# Altium footprint library Button_Switch_SMD.PcbLib: 148 footprints (part 5 of 10)
Each footprint in its own frame and in the unit in brackets; x right, y up, seen from the top. Pads: shape width x height; smd on the part's side, far side on the other; paste and mask are expansions set on the pad; w line width, h text height; cw(c..) or ccw(c..) is an arc to the next point about the centre after c.
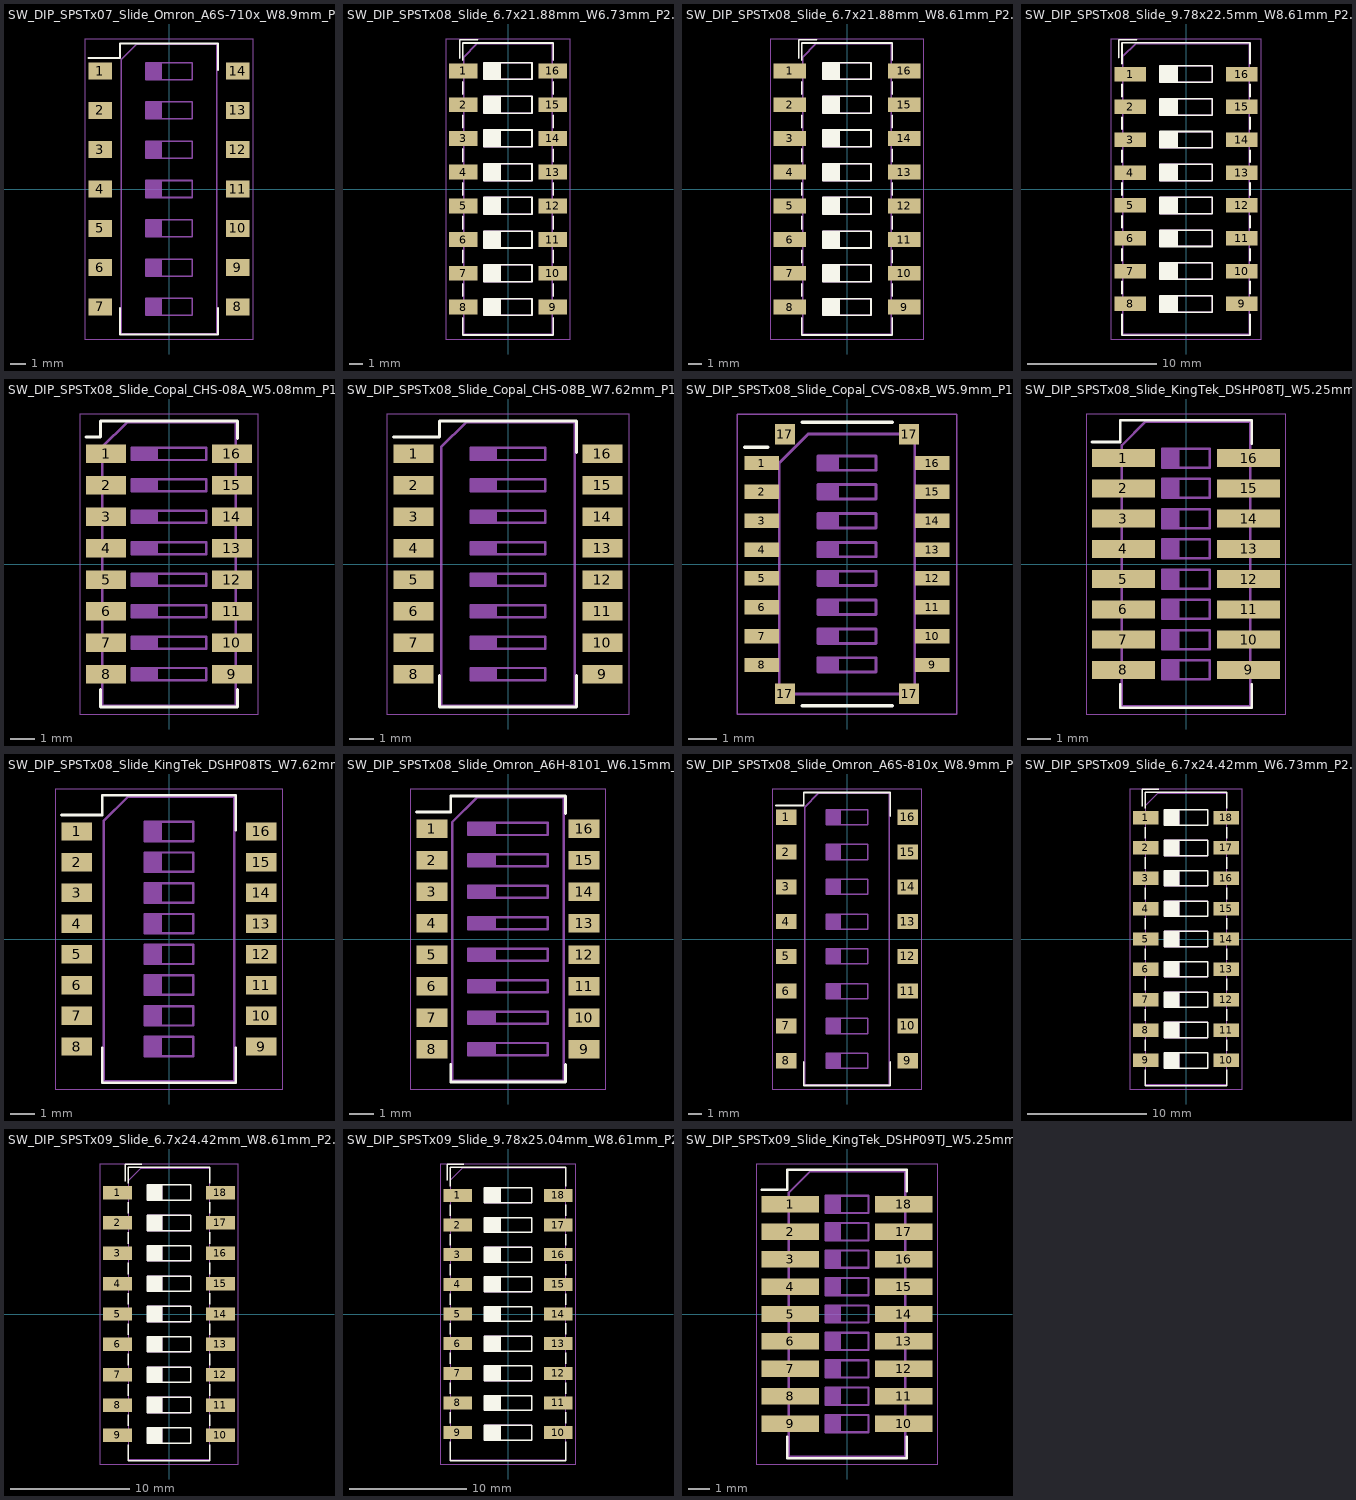
[diagram p4: the footprints below, top view; thin cyan lines are the x and y axes]

## SW_DIP_SPSTx07_Slide_Omron_A6S-710x_W8.9mm_P2.54mm [mm]
pads (14):
  rect 1.5x1.1 smd: 1(-4.45,7.62) 2(-4.45,5.08) 3(-4.45,2.54) 4(-4.45,0) 5(-4.45,-2.54) 6(-4.45,-5.08) 7(-4.45,-7.62) 8(4.45,-7.62) 9(4.45,-5.08) 10(4.45,-2.54) 11(4.45,0) 12(4.45,2.54) 13(4.45,5.08) 14(4.45,7.62)
F.SilkS:
  lines w0.12: -5.2,8.471 -3.16,8.471 -3.16,9.42 3.16,9.42 3.16,7.681 ; -3.16,-7.68 -3.16,-9.42 3.16,-9.42 3.16,-7.68
F.CrtYd:
  lines w0.05: -5.45,-9.7 5.45,-9.7 5.45,9.7 -5.45,9.7 -5.45,-9.7
F.Fab:
  lines w0.1: -1.5,-8.07 -0.5,-8.07 ; -1.5,-7.97 -0.5,-7.97 ; -1.5,-7.87 -0.5,-7.87 ; -1.5,-7.77 -0.5,-7.77 ; -1.5,-7.67 -0.5,-7.67 ; -1.5,-7.57 -0.5,-7.57 ; -1.5,-7.47 -0.5,-7.47 ; -1.5,-7.37 -0.5,-7.37 ; -1.5,-7.27 -0.5,-7.27 ; -1.5,-7.17 -0.5,-7.17 ; -1.5,-5.53 -0.5,-5.53 ; -1.5,-5.43 -0.5,-5.43 ; -1.5,-5.33 -0.5,-5.33 ; -1.5,-5.23 -0.5,-5.23 ; -1.5,-5.13 -0.5,-5.13 ; -1.5,-5.03 -0.5,-5.03 ; -1.5,-4.93 -0.5,-4.93 ; -1.5,-4.83 -0.5,-4.83 ; -1.5,-4.73 -0.5,-4.73 ; -1.5,-4.63 -0.5,-4.63 ; -1.5,-2.99 -0.5,-2.99 ; -1.5,-2.89 -0.5,-2.89 ; -1.5,-2.79 -0.5,-2.79 ; -1.5,-2.69 -0.5,-2.69 ; -1.5,-2.59 -0.5,-2.59 ; -1.5,-2.49 -0.5,-2.49 ; -1.5,-2.39 -0.5,-2.39 ; -1.5,-2.29 -0.5,-2.29 ; -1.5,-2.19 -0.5,-2.19 ; -1.5,-2.09 -0.5,-2.09 ; -1.5,-0.45 -0.5,-0.45 ; -1.5,-0.35 -0.5,-0.35 ; -1.5,-0.25 -0.5,-0.25 ; -1.5,-0.15 -0.5,-0.15 ; -1.5,-0.05 -0.5,-0.05 ; -1.5,0.05 -0.5,0.05 ; -1.5,0.15 -0.5,0.15 ; -1.5,0.25 -0.5,0.25 ; -1.5,0.35 -0.5,0.35 ; -1.5,0.45 -0.5,0.45 ; -1.5,2.09 -0.5,2.09 ; -1.5,2.19 -0.5,2.19 ; -1.5,2.29 -0.5,2.29 ; -1.5,2.39 -0.5,2.39 ; -1.5,2.49 -0.5,2.49 ; -1.5,2.59 -0.5,2.59 ; -1.5,2.69 -0.5,2.69 ; -1.5,2.79 -0.5,2.79 ; -1.5,2.89 -0.5,2.89 ; -1.5,2.99 -0.5,2.99 ; -1.5,4.63 -0.5,4.63 ; -1.5,4.73 -0.5,4.73 ; -1.5,4.83 -0.5,4.83 ; -1.5,4.93 -0.5,4.93 ; -1.5,5.03 -0.5,5.03 ; -1.5,5.13 -0.5,5.13 ; -1.5,5.23 -0.5,5.23 ; -1.5,5.33 -0.5,5.33 ; -1.5,5.43 -0.5,5.43 ; -1.5,5.53 -0.5,5.53 ; -1.5,7.17 -0.5,7.17 ; -1.5,7.27 -0.5,7.27 ; -1.5,7.37 -0.5,7.37 ; -1.5,7.47 -0.5,7.47 ; -1.5,7.57 -0.5,7.57 ; -1.5,7.67 -0.5,7.67 ; -1.5,7.77 -0.5,7.77 ; -1.5,7.87 -0.5,7.87 ; -1.5,7.97 -0.5,7.97 ; -1.5,8.07 -0.5,8.07 ; -0.5,-7.07 -0.5,-8.17 -1.5,-8.17 ; -0.5,-4.53 -0.5,-5.63 -1.5,-5.63 ; -0.5,-1.99 -0.5,-3.09 -1.5,-3.09 ; -0.5,0.55 -0.5,-0.55 -1.5,-0.55 ; -0.5,3.09 -0.5,1.99 -1.5,1.99 ; -0.5,4.53 -0.5,5.63 ; -0.5,8.17 -0.5,7.07 -1.5,7.07 ; -1.5,-8.17 1.5,-8.17 1.5,-7.07 -1.5,-7.07 -1.5,-8.17 ; -1.5,-5.63 1.5,-5.63 1.5,-4.53 -1.5,-4.53 -1.5,-5.63 ; -1.5,-3.09 1.5,-3.09 1.5,-1.99 -1.5,-1.99 -1.5,-3.09 ; -1.5,-0.55 -1.5,0.55 1.5,0.55 1.5,-0.55 -1.5,-0.55 ; -1.5,1.99 1.5,1.99 1.5,3.09 -1.5,3.09 -1.5,1.99 ; -1.5,7.07 1.5,7.07 1.5,8.17 -1.5,8.17 -1.5,7.07 ; -3.1,-9.36 3.1,-9.36 3.1,9.36 -2.1,9.36 -3.1,8.36 -3.1,-9.36 ; -1.5,4.53 -1.5,5.63 1.5,5.63 1.5,4.53 -1.5,4.53
  text "'.Designator'" at 2.972,-3.237 h0.8
  text "on" at -0.59,8.378 h0.8

## SW_DIP_SPSTx08_Slide_6.7x21.88mm_W6.73mm_P2.54mm_LowProfile_JPin [mm]
pads (16):
  rect 2.16x1.12 smd: 1(-3.365,8.89) 2(-3.365,6.35) 3(-3.365,3.81) 4(-3.365,1.27) 5(-3.365,-1.27) 6(-3.365,-3.81) 7(-3.365,-6.35) 8(-3.365,-8.89) 9(3.365,-8.89) 10(3.365,-6.35) 11(3.365,-3.81) 12(3.365,-1.27) 13(3.365,1.27) 14(3.365,3.81) 15(3.365,6.35) 16(3.365,8.89)
F.SilkS:
  lines w0.12: -3.65,9.857 -3.65,11.24 -2.267,11.24 ; -3.41,-9.69 -3.41,-11.001 3.41,-11.001 3.41,-9.69 ; -3.41,-8.09 -3.41,-7.15 ; -3.41,-5.55 -3.41,-4.61 ; -3.41,-3.01 -3.41,-2.07 ; -3.41,-0.47 -3.41,0.47 ; -3.41,2.07 -3.41,3.01 ; -3.41,4.61 -3.41,5.55 ; -3.41,7.15 -3.41,8.09 ; -3.41,9.69 -3.41,11 3.41,11 3.41,9.69 ; -1.81,-9.455 -0.603,-9.455 ; -1.81,-9.335 -0.603,-9.335 ; -1.81,-9.215 -0.603,-9.215 ; -1.81,-9.095 -0.603,-9.095 ; -1.81,-8.975 -0.603,-8.975 ; -1.81,-8.855 -0.603,-8.855 ; -1.81,-8.735 -0.603,-8.735 ; -1.81,-8.615 -0.603,-8.615 ; -1.81,-8.495 -0.603,-8.495 ; -1.81,-8.375 -0.603,-8.375 ; -1.81,-6.915 -0.603,-6.915 ; -1.81,-6.795 -0.603,-6.795 ; -1.81,-6.675 -0.603,-6.675 ; -1.81,-6.555 -0.603,-6.555 ; -1.81,-6.435 -0.603,-6.435 ; -1.81,-6.315 -0.603,-6.315 ; -1.81,-6.195 -0.603,-6.195 ; -1.81,-6.075 -0.603,-6.075 ; -1.81,-5.955 -0.603,-5.955 ; -1.81,-5.835 -0.603,-5.835 ; -1.81,-4.375 -0.603,-4.375 ; -1.81,-4.255 -0.603,-4.255 ; -1.81,-4.135 -0.603,-4.135 ; -1.81,-4.015 -0.603,-4.015 ; -1.81,-3.895 -0.603,-3.895 ; -1.81,-3.775 -0.603,-3.775 ; -1.81,-3.655 -0.603,-3.655 ; -1.81,-3.535 -0.603,-3.535 ; -1.81,-3.415 -0.603,-3.415 ; -1.81,-3.295 -0.603,-3.295 ; -1.81,-1.835 -0.603,-1.835 ; -1.81,-1.715 -0.603,-1.715 ; -1.81,-1.595 -0.603,-1.595 ; -1.81,-1.475 -0.603,-1.475 ; -1.81,-1.355 -0.603,-1.355 ; -1.81,-1.235 -0.603,-1.235 ; -1.81,-1.115 -0.603,-1.115 ; -1.81,-0.995 -0.603,-0.995 ; -1.81,-0.875 -0.603,-0.875 ; -1.81,-0.755 -0.603,-0.755 ; -1.81,0.705 -0.603,0.705 ; -1.81,0.825 -0.603,0.825 ; -1.81,0.945 -0.603,0.945 ; -1.81,1.065 -0.603,1.065 ; -1.81,1.185 -0.603,1.185 ; -1.81,1.305 -0.603,1.305 ; -1.81,1.425 -0.603,1.425 ; -1.81,1.545 -0.603,1.545 ; -1.81,1.665 -0.603,1.665 ; -1.81,1.785 -0.603,1.785 ; -1.81,3.245 -0.603,3.245 ; -1.81,3.365 -0.603,3.365 ; -1.81,3.485 -0.603,3.485 ; -1.81,3.605 -0.603,3.605 ; -1.81,3.725 -0.603,3.725 ; -1.81,3.845 -0.603,3.845 ; -1.81,3.965 -0.603,3.965 ; -1.81,4.085 -0.603,4.085 ; -1.81,4.205 -0.603,4.205 ; -1.81,4.325 -0.603,4.325 ; -1.81,5.785 -0.603,5.785 ; -1.81,5.905 -0.603,5.905 ; -1.81,6.025 -0.603,6.025 ; -1.81,6.145 -0.603,6.145 ; -1.81,6.265 -0.603,6.265 ; -1.81,6.385 -0.603,6.385 ; -1.81,6.505 -0.603,6.505 ; -1.81,6.625 -0.603,6.625 ; -1.81,6.745 -0.603,6.745 ; -1.81,6.865 -0.603,6.865 ; -1.81,8.325 -0.603,8.325 ; -1.81,8.445 -0.603,8.445 ; -1.81,8.565 -0.603,8.565 ; -1.81,8.685 -0.603,8.685 ; -1.81,8.805 -0.603,8.805 ; -1.81,8.925 -0.603,8.925 ; -1.81,9.045 -0.603,9.045 ; -1.81,9.165 -0.603,9.165 ; -1.81,9.285 -0.603,9.285 ; -1.81,9.405 -0.603,9.405 ; -0.603,-9.525 -0.603,-8.255 ; -0.603,-6.985 -0.603,-5.715 ; -0.603,-4.445 -0.603,-3.175 ; -0.603,-1.905 -0.603,-0.635 ; -0.603,0.635 -0.603,1.905 ; -0.603,3.175 -0.603,4.445 ; -0.603,5.715 -0.603,6.985 ; -0.603,8.255 -0.603,9.525 ; 3.41,-8.09 3.41,-7.151 ; 3.41,-5.551 3.41,-4.611 ; 3.41,-3.011 3.41,-2.071 ; 3.41,-0.471 3.41,0.469 ; 3.41,2.069 3.41,3.009 ; 3.41,4.609 3.41,5.549 ; 3.41,7.149 3.41,8.089 ; -1.81,-9.525 1.81,-9.525 1.81,-8.255 -1.81,-8.255 -1.81,-9.525 ; -1.81,-6.985 1.81,-6.985 1.81,-5.715 -1.81,-5.715 -1.81,-6.985 ; -1.81,-4.445 -1.81,-3.175 1.81,-3.175 1.81,-4.445 -1.81,-4.445 ; -1.81,-1.905 -1.81,-0.635 1.81,-0.635 1.81,-1.905 -1.81,-1.905 ; -1.81,0.635 1.81,0.635 1.81,1.905 -1.81,1.905 -1.81,0.635 ; -1.81,3.175 -1.81,4.445 1.81,4.445 1.81,3.175 -1.81,3.175 ; -1.81,5.715 1.81,5.715 1.81,6.985 -1.81,6.985 -1.81,5.715 ; -1.81,8.255 1.81,8.255 1.81,9.525 -1.81,9.525 -1.81,8.255
F.CrtYd:
  lines w0.05: -4.7,-11.3 4.7,-11.3 4.7,11.3 -4.7,11.3 -4.7,-11.3
F.Fab:
  lines w0.1: -1.81,-9.455 -0.603,-9.455 ; -1.81,-9.355 -0.603,-9.355 ; -1.81,-9.255 -0.603,-9.255 ; -1.81,-9.155 -0.603,-9.155 ; -1.81,-9.055 -0.603,-9.055 ; -1.81,-8.955 -0.603,-8.955 ; -1.81,-8.855 -0.603,-8.855 ; -1.81,-8.755 -0.603,-8.755 ; -1.81,-8.655 -0.603,-8.655 ; -1.81,-8.555 -0.603,-8.555 ; -1.81,-8.455 -0.603,-8.455 ; -1.81,-8.355 -0.603,-8.355 ; -1.81,-6.915 -0.603,-6.915 ; -1.81,-6.815 -0.603,-6.815 ; -1.81,-6.715 -0.603,-6.715 ; -1.81,-6.615 -0.603,-6.615 ; -1.81,-6.515 -0.603,-6.515 ; -1.81,-6.415 -0.603,-6.415 ; -1.81,-6.315 -0.603,-6.315 ; -1.81,-6.215 -0.603,-6.215 ; -1.81,-6.115 -0.603,-6.115 ; -1.81,-6.015 -0.603,-6.015 ; -1.81,-5.915 -0.603,-5.915 ; -1.81,-5.815 -0.603,-5.815 ; -1.81,-4.375 -0.603,-4.375 ; -1.81,-4.275 -0.603,-4.275 ; -1.81,-4.175 -0.603,-4.175 ; -1.81,-4.075 -0.603,-4.075 ; -1.81,-3.975 -0.603,-3.975 ; -1.81,-3.875 -0.603,-3.875 ; -1.81,-3.775 -0.603,-3.775 ; -1.81,-3.675 -0.603,-3.675 ; -1.81,-3.575 -0.603,-3.575 ; -1.81,-3.475 -0.603,-3.475 ; -1.81,-3.375 -0.603,-3.375 ; -1.81,-3.275 -0.603,-3.275 ; -1.81,-1.835 -0.603,-1.835 ; -1.81,-1.735 -0.603,-1.735 ; -1.81,-1.635 -0.603,-1.635 ; -1.81,-1.535 -0.603,-1.535 ; -1.81,-1.435 -0.603,-1.435 ; -1.81,-1.335 -0.603,-1.335 ; -1.81,-1.235 -0.603,-1.235 ; -1.81,-1.135 -0.603,-1.135 ; -1.81,-1.035 -0.603,-1.035 ; -1.81,-0.935 -0.603,-0.935 ; -1.81,-0.835 -0.603,-0.835 ; -1.81,-0.735 -0.603,-0.735 ; -1.81,0.705 -0.603,0.705 ; -1.81,0.805 -0.603,0.805 ; -1.81,0.905 -0.603,0.905 ; -1.81,1.005 -0.603,1.005 ; -1.81,1.105 -0.603,1.105 ; -1.81,1.205 -0.603,1.205 ; -1.81,1.305 -0.603,1.305 ; -1.81,1.405 -0.603,1.405 ; -1.81,1.505 -0.603,1.505 ; -1.81,1.605 -0.603,1.605 ; -1.81,1.705 -0.603,1.705 ; -1.81,1.805 -0.603,1.805 ; -1.81,3.245 -0.603,3.245 ; -1.81,3.345 -0.603,3.345 ; -1.81,3.445 -0.603,3.445 ; -1.81,3.545 -0.603,3.545 ; -1.81,3.645 -0.603,3.645 ; -1.81,3.745 -0.603,3.745 ; -1.81,3.845 -0.603,3.845 ; -1.81,3.945 -0.603,3.945 ; -1.81,4.045 -0.603,4.045 ; -1.81,4.145 -0.603,4.145 ; -1.81,4.245 -0.603,4.245 ; -1.81,4.345 -0.603,4.345 ; -1.81,5.785 -0.603,5.785 ; -1.81,5.885 -0.603,5.885 ; -1.81,5.985 -0.603,5.985 ; -1.81,6.085 -0.603,6.085 ; -1.81,6.185 -0.603,6.185 ; -1.81,6.285 -0.603,6.285 ; -1.81,6.385 -0.603,6.385 ; -1.81,6.485 -0.603,6.485 ; -1.81,6.585 -0.603,6.585 ; -1.81,6.685 -0.603,6.685 ; -1.81,6.785 -0.603,6.785 ; -1.81,6.885 -0.603,6.885 ; -1.81,8.325 -0.603,8.325 ; -1.81,8.425 -0.603,8.425 ; -1.81,8.525 -0.603,8.525 ; -1.81,8.625 -0.603,8.625 ; -1.81,8.725 -0.603,8.725 ; -1.81,8.825 -0.603,8.825 ; -1.81,8.925 -0.603,8.925 ; -1.81,9.025 -0.603,9.025 ; -1.81,9.125 -0.603,9.125 ; -1.81,9.225 -0.603,9.225 ; -1.81,9.325 -0.603,9.325 ; -1.81,9.425 -0.603,9.425 ; -0.603,-9.525 -0.603,-8.255 ; -0.603,-6.985 -0.603,-5.715 ; -0.603,-4.445 -0.603,-3.175 ; -0.603,-1.905 -0.603,-0.635 ; -0.603,0.635 -0.603,1.905 ; -0.603,3.175 -0.603,4.445 ; -0.603,5.715 -0.603,6.985 ; -0.603,8.255 -0.603,9.525 ; -3.35,-10.94 3.35,-10.94 3.35,10.94 -2.35,10.94 -3.35,9.94 -3.35,-10.94 ; -1.81,-9.525 1.81,-9.525 1.81,-8.255 -1.81,-8.255 -1.81,-9.525 ; -1.81,-6.985 1.81,-6.985 1.81,-5.715 -1.81,-5.715 -1.81,-6.985 ; -1.81,-4.445 -1.81,-3.175 1.81,-3.175 1.81,-4.445 -1.81,-4.445 ; -1.81,-1.905 -1.81,-0.635 1.81,-0.635 1.81,-1.905 -1.81,-1.905 ; -1.81,0.635 1.81,0.635 1.81,1.905 -1.81,1.905 -1.81,0.635 ; -1.81,3.175 -1.81,4.445 1.81,4.445 1.81,3.175 -1.81,3.175 ; -1.81,5.715 1.81,5.715 1.81,6.985 -1.81,6.985 -1.81,5.715 ; -1.81,8.255 1.81,8.255 1.81,9.525 -1.81,9.525 -1.81,8.255
  text "on" at 0.233,9.846 h0.8
  text "'.Designator'" at 3.252,-3.237 h0.8

## SW_DIP_SPSTx08_Slide_6.7x21.88mm_W8.61mm_P2.54mm_LowProfile [mm]
pads (16):
  rect 2.44x1.12 smd: 1(-4.305,8.89) 2(-4.305,6.35) 3(-4.305,3.81) 4(-4.305,1.27) 5(-4.305,-1.27) 6(-4.305,-3.81) 7(-4.305,-6.35) 8(-4.305,-8.89) 9(4.305,-8.89) 10(4.305,-6.35) 11(4.305,-3.81) 12(4.305,-1.27) 13(4.305,1.27) 14(4.305,3.81) 15(4.305,6.35) 16(4.305,8.89)
F.SilkS:
  lines w0.12: -3.65,9.857 -3.65,11.24 -2.267,11.24 ; -3.41,-9.69 -3.41,-11.001 3.41,-11.001 3.41,-9.69 ; -3.41,-8.09 -3.41,-7.15 ; -3.41,-5.55 -3.41,-4.61 ; -3.41,-3.01 -3.41,-2.07 ; -3.41,-0.47 -3.41,0.47 ; -3.41,2.07 -3.41,3.01 ; -3.41,4.61 -3.41,5.55 ; -3.41,7.15 -3.41,8.09 ; -3.41,9.69 -3.41,11 3.41,11 3.41,9.69 ; -1.81,-9.455 -0.603,-9.455 ; -1.81,-9.335 -0.603,-9.335 ; -1.81,-9.215 -0.603,-9.215 ; -1.81,-9.095 -0.603,-9.095 ; -1.81,-8.975 -0.603,-8.975 ; -1.81,-8.855 -0.603,-8.855 ; -1.81,-8.735 -0.603,-8.735 ; -1.81,-8.615 -0.603,-8.615 ; -1.81,-8.495 -0.603,-8.495 ; -1.81,-8.375 -0.603,-8.375 ; -1.81,-6.915 -0.603,-6.915 ; -1.81,-6.795 -0.603,-6.795 ; -1.81,-6.675 -0.603,-6.675 ; -1.81,-6.555 -0.603,-6.555 ; -1.81,-6.435 -0.603,-6.435 ; -1.81,-6.315 -0.603,-6.315 ; -1.81,-6.195 -0.603,-6.195 ; -1.81,-6.075 -0.603,-6.075 ; -1.81,-5.955 -0.603,-5.955 ; -1.81,-5.835 -0.603,-5.835 ; -1.81,-4.375 -0.603,-4.375 ; -1.81,-4.255 -0.603,-4.255 ; -1.81,-4.135 -0.603,-4.135 ; -1.81,-4.015 -0.603,-4.015 ; -1.81,-3.895 -0.603,-3.895 ; -1.81,-3.775 -0.603,-3.775 ; -1.81,-3.655 -0.603,-3.655 ; -1.81,-3.535 -0.603,-3.535 ; -1.81,-3.415 -0.603,-3.415 ; -1.81,-3.295 -0.603,-3.295 ; -1.81,-1.835 -0.603,-1.835 ; -1.81,-1.715 -0.603,-1.715 ; -1.81,-1.595 -0.603,-1.595 ; -1.81,-1.475 -0.603,-1.475 ; -1.81,-1.355 -0.603,-1.355 ; -1.81,-1.235 -0.603,-1.235 ; -1.81,-1.115 -0.603,-1.115 ; -1.81,-0.995 -0.603,-0.995 ; -1.81,-0.875 -0.603,-0.875 ; -1.81,-0.755 -0.603,-0.755 ; -1.81,0.705 -0.603,0.705 ; -1.81,0.825 -0.603,0.825 ; -1.81,0.945 -0.603,0.945 ; -1.81,1.065 -0.603,1.065 ; -1.81,1.185 -0.603,1.185 ; -1.81,1.305 -0.603,1.305 ; -1.81,1.425 -0.603,1.425 ; -1.81,1.545 -0.603,1.545 ; -1.81,1.665 -0.603,1.665 ; -1.81,1.785 -0.603,1.785 ; -1.81,3.245 -0.603,3.245 ; -1.81,3.365 -0.603,3.365 ; -1.81,3.485 -0.603,3.485 ; -1.81,3.605 -0.603,3.605 ; -1.81,3.725 -0.603,3.725 ; -1.81,3.845 -0.603,3.845 ; -1.81,3.965 -0.603,3.965 ; -1.81,4.085 -0.603,4.085 ; -1.81,4.205 -0.603,4.205 ; -1.81,4.325 -0.603,4.325 ; -1.81,5.785 -0.603,5.785 ; -1.81,5.905 -0.603,5.905 ; -1.81,6.025 -0.603,6.025 ; -1.81,6.145 -0.603,6.145 ; -1.81,6.265 -0.603,6.265 ; -1.81,6.385 -0.603,6.385 ; -1.81,6.505 -0.603,6.505 ; -1.81,6.625 -0.603,6.625 ; -1.81,6.745 -0.603,6.745 ; -1.81,6.865 -0.603,6.865 ; -1.81,8.325 -0.603,8.325 ; -1.81,8.445 -0.603,8.445 ; -1.81,8.565 -0.603,8.565 ; -1.81,8.685 -0.603,8.685 ; -1.81,8.805 -0.603,8.805 ; -1.81,8.925 -0.603,8.925 ; -1.81,9.045 -0.603,9.045 ; -1.81,9.165 -0.603,9.165 ; -1.81,9.285 -0.603,9.285 ; -1.81,9.405 -0.603,9.405 ; -0.603,-9.525 -0.603,-8.255 ; -0.603,-6.985 -0.603,-5.715 ; -0.603,-4.445 -0.603,-3.175 ; -0.603,-1.905 -0.603,-0.635 ; -0.603,0.635 -0.603,1.905 ; -0.603,3.175 -0.603,4.445 ; -0.603,5.715 -0.603,6.985 ; -0.603,8.255 -0.603,9.525 ; 3.41,-8.09 3.41,-7.151 ; 3.41,-5.551 3.41,-4.611 ; 3.41,-3.011 3.41,-2.071 ; 3.41,-0.471 3.41,0.469 ; 3.41,2.069 3.41,3.009 ; 3.41,4.609 3.41,5.549 ; 3.41,7.149 3.41,8.089 ; -1.81,-9.525 1.81,-9.525 1.81,-8.255 -1.81,-8.255 -1.81,-9.525 ; -1.81,-6.985 1.81,-6.985 1.81,-5.715 -1.81,-5.715 -1.81,-6.985 ; -1.81,-4.445 -1.81,-3.175 1.81,-3.175 1.81,-4.445 -1.81,-4.445 ; -1.81,-1.905 1.81,-1.905 1.81,-0.635 -1.81,-0.635 -1.81,-1.905 ; -1.81,0.635 1.81,0.635 1.81,1.905 -1.81,1.905 -1.81,0.635 ; -1.81,3.175 -1.81,4.445 1.81,4.445 1.81,3.175 -1.81,3.175 ; -1.81,5.715 -1.81,6.985 1.81,6.985 1.81,5.715 -1.81,5.715 ; -1.81,8.255 -1.81,9.525 1.81,9.525 1.81,8.255 -1.81,8.255
F.CrtYd:
  lines w0.05: -5.8,-11.3 -5.8,11.3 5.8,11.3 5.8,-11.3 -5.8,-11.3
F.Fab:
  lines w0.1: -1.81,-9.455 -0.603,-9.455 ; -1.81,-9.355 -0.603,-9.355 ; -1.81,-9.255 -0.603,-9.255 ; -1.81,-9.155 -0.603,-9.155 ; -1.81,-9.055 -0.603,-9.055 ; -1.81,-8.955 -0.603,-8.955 ; -1.81,-8.855 -0.603,-8.855 ; -1.81,-8.755 -0.603,-8.755 ; -1.81,-8.655 -0.603,-8.655 ; -1.81,-8.555 -0.603,-8.555 ; -1.81,-8.455 -0.603,-8.455 ; -1.81,-8.355 -0.603,-8.355 ; -1.81,-6.915 -0.603,-6.915 ; -1.81,-6.815 -0.603,-6.815 ; -1.81,-6.715 -0.603,-6.715 ; -1.81,-6.615 -0.603,-6.615 ; -1.81,-6.515 -0.603,-6.515 ; -1.81,-6.415 -0.603,-6.415 ; -1.81,-6.315 -0.603,-6.315 ; -1.81,-6.215 -0.603,-6.215 ; -1.81,-6.115 -0.603,-6.115 ; -1.81,-6.015 -0.603,-6.015 ; -1.81,-5.915 -0.603,-5.915 ; -1.81,-5.815 -0.603,-5.815 ; -1.81,-4.375 -0.603,-4.375 ; -1.81,-4.275 -0.603,-4.275 ; -1.81,-4.175 -0.603,-4.175 ; -1.81,-4.075 -0.603,-4.075 ; -1.81,-3.975 -0.603,-3.975 ; -1.81,-3.875 -0.603,-3.875 ; -1.81,-3.775 -0.603,-3.775 ; -1.81,-3.675 -0.603,-3.675 ; -1.81,-3.575 -0.603,-3.575 ; -1.81,-3.475 -0.603,-3.475 ; -1.81,-3.375 -0.603,-3.375 ; -1.81,-3.275 -0.603,-3.275 ; -1.81,-1.835 -0.603,-1.835 ; -1.81,-1.735 -0.603,-1.735 ; -1.81,-1.635 -0.603,-1.635 ; -1.81,-1.535 -0.603,-1.535 ; -1.81,-1.435 -0.603,-1.435 ; -1.81,-1.335 -0.603,-1.335 ; -1.81,-1.235 -0.603,-1.235 ; -1.81,-1.135 -0.603,-1.135 ; -1.81,-1.035 -0.603,-1.035 ; -1.81,-0.935 -0.603,-0.935 ; -1.81,-0.835 -0.603,-0.835 ; -1.81,-0.735 -0.603,-0.735 ; -1.81,0.705 -0.603,0.705 ; -1.81,0.805 -0.603,0.805 ; -1.81,0.905 -0.603,0.905 ; -1.81,1.005 -0.603,1.005 ; -1.81,1.105 -0.603,1.105 ; -1.81,1.205 -0.603,1.205 ; -1.81,1.305 -0.603,1.305 ; -1.81,1.405 -0.603,1.405 ; -1.81,1.505 -0.603,1.505 ; -1.81,1.605 -0.603,1.605 ; -1.81,1.705 -0.603,1.705 ; -1.81,1.805 -0.603,1.805 ; -1.81,3.245 -0.603,3.245 ; -1.81,3.345 -0.603,3.345 ; -1.81,3.445 -0.603,3.445 ; -1.81,3.545 -0.603,3.545 ; -1.81,3.645 -0.603,3.645 ; -1.81,3.745 -0.603,3.745 ; -1.81,3.845 -0.603,3.845 ; -1.81,3.945 -0.603,3.945 ; -1.81,4.045 -0.603,4.045 ; -1.81,4.145 -0.603,4.145 ; -1.81,4.245 -0.603,4.245 ; -1.81,4.345 -0.603,4.345 ; -1.81,5.785 -0.603,5.785 ; -1.81,5.885 -0.603,5.885 ; -1.81,5.985 -0.603,5.985 ; -1.81,6.085 -0.603,6.085 ; -1.81,6.185 -0.603,6.185 ; -1.81,6.285 -0.603,6.285 ; -1.81,6.385 -0.603,6.385 ; -1.81,6.485 -0.603,6.485 ; -1.81,6.585 -0.603,6.585 ; -1.81,6.685 -0.603,6.685 ; -1.81,6.785 -0.603,6.785 ; -1.81,6.885 -0.603,6.885 ; -1.81,8.325 -0.603,8.325 ; -1.81,8.425 -0.603,8.425 ; -1.81,8.525 -0.603,8.525 ; -1.81,8.625 -0.603,8.625 ; -1.81,8.725 -0.603,8.725 ; -1.81,8.825 -0.603,8.825 ; -1.81,8.925 -0.603,8.925 ; -1.81,9.025 -0.603,9.025 ; -1.81,9.125 -0.603,9.125 ; -1.81,9.225 -0.603,9.225 ; -1.81,9.325 -0.603,9.325 ; -1.81,9.425 -0.603,9.425 ; -0.603,-9.525 -0.603,-8.255 ; -0.603,-6.985 -0.603,-5.715 ; -0.603,-4.445 -0.603,-3.175 ; -0.603,-1.905 -0.603,-0.635 ; -0.603,0.635 -0.603,1.905 ; -0.603,3.175 -0.603,4.445 ; -0.603,5.715 -0.603,6.985 ; -0.603,8.255 -0.603,9.525 ; -3.35,-10.94 -3.35,9.94 -2.35,10.94 3.35,10.94 3.35,-10.94 -3.35,-10.94 ; -1.81,-9.525 -1.81,-8.255 1.81,-8.255 1.81,-9.525 -1.81,-9.525 ; -1.81,-6.985 -1.81,-5.715 1.81,-5.715 1.81,-6.985 -1.81,-6.985 ; -1.81,-4.445 1.81,-4.445 1.81,-3.175 -1.81,-3.175 -1.81,-4.445 ; -1.81,-1.905 -1.81,-0.635 1.81,-0.635 1.81,-1.905 -1.81,-1.905 ; -1.81,0.635 1.81,0.635 1.81,1.905 -1.81,1.905 -1.81,0.635 ; -1.81,3.175 1.81,3.175 1.81,4.445 -1.81,4.445 -1.81,3.175 ; -1.81,5.715 1.81,5.715 1.81,6.985 -1.81,6.985 -1.81,5.715 ; -1.81,8.255 1.81,8.255 1.81,9.525 -1.81,9.525 -1.81,8.255
  text "'.Designator'" at 3.252,-3.237 h0.8
  text "on" at -0.237,9.846 h0.8

## SW_DIP_SPSTx08_Slide_9.78x22.5mm_W8.61mm_P2.54mm [mm]
pads (16):
  rect 2.44x1.12 smd: 1(-4.305,8.89) 2(-4.305,6.35) 3(-4.305,3.81) 4(-4.305,1.27) 5(-4.305,-1.27) 6(-4.305,-3.81) 7(-4.305,-6.35) 8(-4.305,-8.89) 9(4.305,-8.89) 10(4.305,-6.35) 11(4.305,-3.81) 12(4.305,-1.27) 13(4.305,1.27) 14(4.305,3.81) 15(4.305,6.35) 16(4.305,8.89)
F.SilkS:
  lines w0.12: -5.19,10.167 -5.19,11.55 -3.806,11.55 ; -4.95,-9.69 -4.95,-11.311 4.95,-11.311 4.95,-9.69 ; -4.95,-8.09 -4.95,-7.15 ; -4.95,-5.55 -4.95,-4.61 ; -4.95,-3.01 -4.95,-2.07 ; -4.95,-0.47 -4.95,0.47 ; -4.95,2.07 -4.95,3.01 ; -4.95,4.61 -4.95,5.55 ; -4.95,7.15 -4.95,8.09 ; -4.95,9.69 -4.95,11.31 4.95,11.31 4.95,9.69 ; -2.03,-9.455 -0.677,-9.455 ; -2.03,-9.335 -0.677,-9.335 ; -2.03,-9.215 -0.677,-9.215 ; -2.03,-9.095 -0.677,-9.095 ; -2.03,-8.975 -0.677,-8.975 ; -2.03,-8.855 -0.677,-8.855 ; -2.03,-8.735 -0.677,-8.735 ; -2.03,-8.615 -0.677,-8.615 ; -2.03,-8.495 -0.677,-8.495 ; -2.03,-8.375 -0.677,-8.375 ; -2.03,-6.915 -0.677,-6.915 ; -2.03,-6.795 -0.677,-6.795 ; -2.03,-6.675 -0.677,-6.675 ; -2.03,-6.555 -0.677,-6.555 ; -2.03,-6.435 -0.677,-6.435 ; -2.03,-6.315 -0.677,-6.315 ; -2.03,-6.195 -0.677,-6.195 ; -2.03,-6.075 -0.677,-6.075 ; -2.03,-5.955 -0.677,-5.955 ; -2.03,-5.835 -0.677,-5.835 ; -2.03,-4.375 -0.677,-4.375 ; -2.03,-4.255 -0.677,-4.255 ; -2.03,-4.135 -0.677,-4.135 ; -2.03,-4.015 -0.677,-4.015 ; -2.03,-3.895 -0.677,-3.895 ; -2.03,-3.775 -0.677,-3.775 ; -2.03,-3.655 -0.677,-3.655 ; -2.03,-3.535 -0.677,-3.535 ; -2.03,-3.415 -0.677,-3.415 ; -2.03,-3.295 -0.677,-3.295 ; -2.03,-1.835 -0.677,-1.835 ; -2.03,-1.715 -0.677,-1.715 ; -2.03,-1.595 -0.677,-1.595 ; -2.03,-1.475 -0.677,-1.475 ; -2.03,-1.355 -0.677,-1.355 ; -2.03,-1.235 -0.677,-1.235 ; -2.03,-1.115 -0.677,-1.115 ; -2.03,-0.995 -0.677,-0.995 ; -2.03,-0.875 -0.677,-0.875 ; -2.03,-0.755 -0.677,-0.755 ; -2.03,0.705 -0.677,0.705 ; -2.03,0.825 -0.677,0.825 ; -2.03,0.945 -0.677,0.945 ; -2.03,1.065 -0.677,1.065 ; -2.03,1.185 -0.677,1.185 ; -2.03,1.305 -0.677,1.305 ; -2.03,1.425 -0.677,1.425 ; -2.03,1.545 -0.677,1.545 ; -2.03,1.665 -0.677,1.665 ; -2.03,1.785 -0.677,1.785 ; -2.03,3.245 -0.677,3.245 ; -2.03,3.365 -0.677,3.365 ; -2.03,3.485 -0.677,3.485 ; -2.03,3.605 -0.677,3.605 ; -2.03,3.725 -0.677,3.725 ; -2.03,3.845 -0.677,3.845 ; -2.03,3.965 -0.677,3.965 ; -2.03,4.085 -0.677,4.085 ; -2.03,4.205 -0.677,4.205 ; -2.03,4.325 -0.677,4.325 ; -2.03,5.785 -0.677,5.785 ; -2.03,5.905 -0.677,5.905 ; -2.03,6.025 -0.677,6.025 ; -2.03,6.145 -0.677,6.145 ; -2.03,6.265 -0.677,6.265 ; -2.03,6.385 -0.677,6.385 ; -2.03,6.505 -0.677,6.505 ; -2.03,6.625 -0.677,6.625 ; -2.03,6.745 -0.677,6.745 ; -2.03,6.865 -0.677,6.865 ; -2.03,8.325 -0.677,8.325 ; -2.03,8.445 -0.677,8.445 ; -2.03,8.565 -0.677,8.565 ; -2.03,8.685 -0.677,8.685 ; -2.03,8.805 -0.677,8.805 ; -2.03,8.925 -0.677,8.925 ; -2.03,9.045 -0.677,9.045 ; -2.03,9.165 -0.677,9.165 ; -2.03,9.285 -0.677,9.285 ; -2.03,9.405 -0.677,9.405 ; -0.677,-9.525 -0.677,-8.255 ; -0.677,-6.985 -0.677,-5.715 ; -0.677,-4.445 -0.677,-3.175 ; -0.677,-1.905 -0.677,-0.635 ; -0.677,0.635 -0.677,1.905 ; -0.677,3.175 -0.677,4.445 ; -0.677,5.715 -0.677,6.985 ; -0.677,8.255 -0.677,9.525 ; 4.95,-8.09 4.95,-7.151 ; 4.95,-5.551 4.95,-4.611 ; 4.95,-3.011 4.95,-2.071 ; 4.95,-0.471 4.95,0.469 ; 4.95,2.069 4.95,3.009 ; 4.95,4.609 4.95,5.549 ; 4.95,7.149 4.95,8.089 ; -2.03,-9.525 -2.03,-8.255 2.03,-8.255 2.03,-9.525 -2.03,-9.525 ; -2.03,-6.985 -2.03,-5.715 2.03,-5.715 2.03,-6.985 -2.03,-6.985 ; -2.03,-4.445 -2.03,-3.175 2.03,-3.175 2.03,-4.445 -2.03,-4.445 ; -2.03,-1.905 -2.03,-0.635 2.03,-0.635 2.03,-1.905 -2.03,-1.905 ; -2.03,0.635 2.03,0.635 2.03,1.905 -2.03,1.905 -2.03,0.635 ; -2.03,3.175 -2.03,4.445 2.03,4.445 2.03,3.175 -2.03,3.175 ; -2.03,5.715 2.03,5.715 2.03,6.985 -2.03,6.985 -2.03,5.715 ; -2.03,8.255 -2.03,9.525 2.03,9.525 2.03,8.255 -2.03,8.255
F.CrtYd:
  lines w0.05: -5.8,-11.6 -5.8,11.6 5.8,11.6 5.8,-11.6 -5.8,-11.6
F.Fab:
  lines w0.1: -2.03,-9.455 -0.677,-9.455 ; -2.03,-9.355 -0.677,-9.355 ; -2.03,-9.255 -0.677,-9.255 ; -2.03,-9.155 -0.677,-9.155 ; -2.03,-9.055 -0.677,-9.055 ; -2.03,-8.955 -0.677,-8.955 ; -2.03,-8.855 -0.677,-8.855 ; -2.03,-8.755 -0.677,-8.755 ; -2.03,-8.655 -0.677,-8.655 ; -2.03,-8.555 -0.677,-8.555 ; -2.03,-8.455 -0.677,-8.455 ; -2.03,-8.355 -0.677,-8.355 ; -2.03,-6.915 -0.677,-6.915 ; -2.03,-6.815 -0.677,-6.815 ; -2.03,-6.715 -0.677,-6.715 ; -2.03,-6.615 -0.677,-6.615 ; -2.03,-6.515 -0.677,-6.515 ; -2.03,-6.415 -0.677,-6.415 ; -2.03,-6.315 -0.677,-6.315 ; -2.03,-6.215 -0.677,-6.215 ; -2.03,-6.115 -0.677,-6.115 ; -2.03,-6.015 -0.677,-6.015 ; -2.03,-5.915 -0.677,-5.915 ; -2.03,-5.815 -0.677,-5.815 ; -2.03,-4.375 -0.677,-4.375 ; -2.03,-4.275 -0.677,-4.275 ; -2.03,-4.175 -0.677,-4.175 ; -2.03,-4.075 -0.677,-4.075 ; -2.03,-3.975 -0.677,-3.975 ; -2.03,-3.875 -0.677,-3.875 ; -2.03,-3.775 -0.677,-3.775 ; -2.03,-3.675 -0.677,-3.675 ; -2.03,-3.575 -0.677,-3.575 ; -2.03,-3.475 -0.677,-3.475 ; -2.03,-3.375 -0.677,-3.375 ; -2.03,-3.275 -0.677,-3.275 ; -2.03,-1.835 -0.677,-1.835 ; -2.03,-1.735 -0.677,-1.735 ; -2.03,-1.635 -0.677,-1.635 ; -2.03,-1.535 -0.677,-1.535 ; -2.03,-1.435 -0.677,-1.435 ; -2.03,-1.335 -0.677,-1.335 ; -2.03,-1.235 -0.677,-1.235 ; -2.03,-1.135 -0.677,-1.135 ; -2.03,-1.035 -0.677,-1.035 ; -2.03,-0.935 -0.677,-0.935 ; -2.03,-0.835 -0.677,-0.835 ; -2.03,-0.735 -0.677,-0.735 ; -2.03,0.705 -0.677,0.705 ; -2.03,0.805 -0.677,0.805 ; -2.03,0.905 -0.677,0.905 ; -2.03,1.005 -0.677,1.005 ; -2.03,1.105 -0.677,1.105 ; -2.03,1.205 -0.677,1.205 ; -2.03,1.305 -0.677,1.305 ; -2.03,1.405 -0.677,1.405 ; -2.03,1.505 -0.677,1.505 ; -2.03,1.605 -0.677,1.605 ; -2.03,1.705 -0.677,1.705 ; -2.03,1.805 -0.677,1.805 ; -2.03,3.245 -0.677,3.245 ; -2.03,3.345 -0.677,3.345 ; -2.03,3.445 -0.677,3.445 ; -2.03,3.545 -0.677,3.545 ; -2.03,3.645 -0.677,3.645 ; -2.03,3.745 -0.677,3.745 ; -2.03,3.845 -0.677,3.845 ; -2.03,3.945 -0.677,3.945 ; -2.03,4.045 -0.677,4.045 ; -2.03,4.145 -0.677,4.145 ; -2.03,4.245 -0.677,4.245 ; -2.03,4.345 -0.677,4.345 ; -2.03,5.785 -0.677,5.785 ; -2.03,5.885 -0.677,5.885 ; -2.03,5.985 -0.677,5.985 ; -2.03,6.085 -0.677,6.085 ; -2.03,6.185 -0.677,6.185 ; -2.03,6.285 -0.677,6.285 ; -2.03,6.385 -0.677,6.385 ; -2.03,6.485 -0.677,6.485 ; -2.03,6.585 -0.677,6.585 ; -2.03,6.685 -0.677,6.685 ; -2.03,6.785 -0.677,6.785 ; -2.03,6.885 -0.677,6.885 ; -2.03,8.325 -0.677,8.325 ; -2.03,8.425 -0.677,8.425 ; -2.03,8.525 -0.677,8.525 ; -2.03,8.625 -0.677,8.625 ; -2.03,8.725 -0.677,8.725 ; -2.03,8.825 -0.677,8.825 ; -2.03,8.925 -0.677,8.925 ; -2.03,9.025 -0.677,9.025 ; -2.03,9.125 -0.677,9.125 ; -2.03,9.225 -0.677,9.225 ; -2.03,9.325 -0.677,9.325 ; -2.03,9.425 -0.677,9.425 ; -0.677,-9.525 -0.677,-8.255 ; -0.677,-6.985 -0.677,-5.715 ; -0.677,-4.445 -0.677,-3.175 ; -0.677,-1.905 -0.677,-0.635 ; -0.677,0.635 -0.677,1.905 ; -0.677,3.175 -0.677,4.445 ; -0.677,5.715 -0.677,6.985 ; -0.677,8.255 -0.677,9.525 ; -4.89,-11.25 4.89,-11.25 4.89,11.25 -3.89,11.25 -4.89,10.25 -4.89,-11.25 ; -2.03,-9.525 2.03,-9.525 2.03,-8.255 -2.03,-8.255 -2.03,-9.525 ; -2.03,-6.985 -2.03,-5.715 2.03,-5.715 2.03,-6.985 -2.03,-6.985 ; -2.03,-4.445 2.03,-4.445 2.03,-3.175 -2.03,-3.175 -2.03,-4.445 ; -2.03,-1.905 2.03,-1.905 2.03,-0.635 -2.03,-0.635 -2.03,-1.905 ; -2.03,0.635 2.03,0.635 2.03,1.905 -2.03,1.905 -2.03,0.635 ; -2.03,3.175 2.03,3.175 2.03,4.445 -2.03,4.445 -2.03,3.175 ; -2.03,5.715 -2.03,6.985 2.03,6.985 2.03,5.715 -2.03,5.715 ; -2.03,8.255 2.03,8.255 2.03,9.525 -2.03,9.525 -2.03,8.255
  text "'.Designator'" at 4.132,-3.237 h0.8
  text "on" at 0.643,10.001 h0.8

## SW_DIP_SPSTx08_Slide_Copal_CHS-08A_W5.08mm_P1.27mm_JPin [mm]
pads (16):
  rect 1.6x0.76 smd: 1(-2.54,4.445) 2(-2.54,3.175) 3(-2.54,1.905) 4(-2.54,0.635) 5(-2.54,-0.635) 6(-2.54,-1.905) 7(-2.54,-3.175) 8(-2.54,-4.445) 9(2.54,-4.445) 10(2.54,-3.175) 11(2.54,-1.905) 12(2.54,-0.635) 13(2.54,0.635) 14(2.54,1.905) 15(2.54,3.175) 16(2.54,4.445)
F.SilkS:
  lines w0.12: -3.34,5.125 -2.761,5.125 -2.761,5.775 2.76,5.775 2.76,5.065 ; -2.761,-5.065 -2.761,-5.775 2.76,-5.775 2.76,-5.065
F.CrtYd:
  lines w0.05: -3.6,-6.05 -3.6,6.05 3.6,6.05 3.6,-6.05 -3.6,-6.05
F.Fab:
  lines w0.1: -1.5,-4.595 -0.5,-4.595 ; -1.5,-4.495 -0.5,-4.495 ; -1.5,-4.395 -0.5,-4.395 ; -1.5,-4.295 -0.5,-4.295 ; -1.5,-3.325 -0.5,-3.325 ; -1.5,-3.225 -0.5,-3.225 ; -1.5,-3.125 -0.5,-3.125 ; -1.5,-3.025 -0.5,-3.025 ; -1.5,-2.055 -0.5,-2.055 ; -1.5,-1.955 -0.5,-1.955 ; -1.5,-1.855 -0.5,-1.855 ; -1.5,-1.755 -0.5,-1.755 ; -1.5,-0.785 -0.5,-0.785 ; -1.5,-0.685 -0.5,-0.685 ; -1.5,-0.585 -0.5,-0.585 ; -1.5,-0.485 -0.5,-0.485 ; -1.5,0.485 -0.5,0.485 ; -1.5,0.585 -0.5,0.585 ; -1.5,0.685 -0.5,0.685 ; -1.5,0.785 -0.5,0.785 ; -1.5,1.755 -0.5,1.755 ; -1.5,1.855 -0.5,1.855 ; -1.5,1.955 -0.5,1.955 ; -1.5,2.055 -0.5,2.055 ; -1.5,3.025 -0.5,3.025 ; -1.5,3.125 -0.5,3.125 ; -1.5,3.225 -0.5,3.225 ; -1.5,3.325 -0.5,3.325 ; -1.5,4.295 -0.5,4.295 ; -1.5,4.395 -0.5,4.395 ; -1.5,4.495 -0.5,4.495 ; -1.5,4.595 -0.5,4.595 ; -0.5,-4.195 -0.5,-4.695 -1.5,-4.695 ; -0.5,-2.925 -0.5,-3.425 -1.5,-3.425 ; -0.5,-1.655 -0.5,-2.155 -1.5,-2.155 ; -0.5,-0.385 -0.5,-0.885 -1.5,-0.885 ; -0.5,0.385 -0.5,0.885 ; -0.5,1.655 -0.5,2.155 ; -0.5,2.925 -0.5,3.425 ; -0.5,4.195 -0.5,4.695 ; -1.5,-4.695 1.5,-4.695 1.5,-4.195 -1.5,-4.195 -1.5,-4.695 ; -1.5,-3.425 1.5,-3.425 1.5,-2.925 -1.5,-2.925 -1.5,-3.425 ; -1.5,-2.155 1.5,-2.155 1.5,-1.655 -1.5,-1.655 -1.5,-2.155 ; -1.5,-0.885 -1.5,-0.385 1.5,-0.385 1.5,-0.885 -1.5,-0.885 ; -2.7,-5.715 -2.7,4.715 -1.7,5.715 2.7,5.715 2.7,-5.715 -2.7,-5.715 ; -1.5,0.385 -1.5,0.885 1.5,0.885 1.5,0.385 -1.5,0.385 ; -1.5,1.655 -1.5,2.155 1.5,2.155 1.5,1.655 -1.5,1.655 ; -1.5,2.925 1.5,2.925 1.5,3.425 -1.5,3.425 -1.5,2.925 ; -1.5,4.195 1.5,4.195 1.5,4.695 -1.5,4.695 -1.5,4.195
  text "'.Designator'" at 2.772,-3.237 h0.8
  text "on" at 0.165,4.818 h0.8

## SW_DIP_SPSTx08_Slide_Copal_CHS-08B_W7.62mm_P1.27mm [mm]
pads (16):
  rect 1.6x0.76 smd: 1(-3.81,4.445) 2(-3.81,3.175) 3(-3.81,1.905) 4(-3.81,0.635) 5(-3.81,-0.635) 6(-3.81,-1.905) 7(-3.81,-3.175) 8(-3.81,-4.445) 9(3.81,-4.445) 10(3.81,-3.175) 11(3.81,-1.905) 12(3.81,-0.635) 13(3.81,0.635) 14(3.81,1.905) 15(3.81,3.175) 16(3.81,4.445)
F.SilkS:
  lines w0.12: -4.61,5.125 -2.76,5.125 -2.76,5.775 2.76,5.775 2.76,4.506 ; -2.76,-4.505 -2.76,-5.775 2.76,-5.775 2.76,-4.505
F.CrtYd:
  lines w0.05: -4.9,-6.05 -4.9,6.05 4.9,6.05 4.9,-6.05 -4.9,-6.05
F.Fab:
  lines w0.1: -1.5,-4.595 -0.5,-4.595 ; -1.5,-4.495 -0.5,-4.495 ; -1.5,-4.395 -0.5,-4.395 ; -1.5,-4.295 -0.5,-4.295 ; -1.5,-3.325 -0.5,-3.325 ; -1.5,-3.225 -0.5,-3.225 ; -1.5,-3.125 -0.5,-3.125 ; -1.5,-3.025 -0.5,-3.025 ; -1.5,-2.055 -0.5,-2.055 ; -1.5,-1.955 -0.5,-1.955 ; -1.5,-1.855 -0.5,-1.855 ; -1.5,-1.755 -0.5,-1.755 ; -1.5,-0.785 -0.5,-0.785 ; -1.5,-0.685 -0.5,-0.685 ; -1.5,-0.585 -0.5,-0.585 ; -1.5,-0.485 -0.5,-0.485 ; -1.5,0.485 -0.5,0.485 ; -1.5,0.585 -0.5,0.585 ; -1.5,0.685 -0.5,0.685 ; -1.5,0.785 -0.5,0.785 ; -1.5,1.755 -0.5,1.755 ; -1.5,1.855 -0.5,1.855 ; -1.5,1.955 -0.5,1.955 ; -1.5,2.055 -0.5,2.055 ; -1.5,3.025 -0.5,3.025 ; -1.5,3.125 -0.5,3.125 ; -1.5,3.225 -0.5,3.225 ; -1.5,3.325 -0.5,3.325 ; -1.5,4.295 -0.5,4.295 ; -1.5,4.395 -0.5,4.395 ; -1.5,4.495 -0.5,4.495 ; -1.5,4.595 -0.5,4.595 ; -0.5,-4.195 -0.5,-4.695 -1.5,-4.695 ; -0.5,-2.925 -0.5,-3.425 -1.5,-3.425 ; -0.5,-1.655 -0.5,-2.155 -1.5,-2.155 ; -0.5,-0.385 -0.5,-0.885 -1.5,-0.885 ; -0.5,0.385 -0.5,0.885 ; -0.5,1.655 -0.5,2.155 ; -0.5,2.925 -0.5,3.425 ; -0.5,4.195 -0.5,4.695 ; -1.5,-4.695 -1.5,-4.195 1.5,-4.195 1.5,-4.695 -1.5,-4.695 ; -1.5,-3.425 -1.5,-2.925 1.5,-2.925 1.5,-3.425 -1.5,-3.425 ; -1.5,-2.155 1.5,-2.155 1.5,-1.655 -1.5,-1.655 -1.5,-2.155 ; -1.5,-0.885 1.5,-0.885 1.5,-0.385 -1.5,-0.385 -1.5,-0.885 ; -2.7,-5.715 2.7,-5.715 2.7,5.715 -1.7,5.715 -2.7,4.715 -2.7,-5.715 ; -1.5,0.385 -1.5,0.885 1.5,0.885 1.5,0.385 -1.5,0.385 ; -1.5,1.655 -1.5,2.155 1.5,2.155 1.5,1.655 -1.5,1.655 ; -1.5,2.925 1.5,2.925 1.5,3.425 -1.5,3.425 -1.5,2.925 ; -1.5,4.195 1.5,4.195 1.5,4.695 -1.5,4.695 -1.5,4.195
  text "on" at -0.47,4.818 h0.8
  text "'.Designator'" at 2.772,-3.237 h0.8

## SW_DIP_SPSTx08_Slide_Copal_CVS-08xB_W5.9mm_P1mm [mm]
pads (20):
  rect 1.2x0.5 smd: 1(-2.95,3.5) 2(-2.95,2.5) 3(-2.95,1.5) 4(-2.95,0.5) 5(-2.95,-0.5) 6(-2.95,-1.5) 7(-2.95,-2.5) 8(-2.95,-3.5) 9(2.95,-3.5) 10(2.95,-2.5) 11(2.95,-1.5) 12(2.95,-0.5) 13(2.95,0.5) 14(2.95,1.5) 15(2.95,2.5) 16(2.95,3.5)
  rect 0.7x0.7 smd: 17(-2.15,-4.5) 17(-2.15,4.5) 17(2.15,-4.5) 17(2.15,4.5)
F.SilkS:
  lines w0.12: -3.55,4.05 -2.739,4.05 ; -1.56,-4.91 1.561,-4.91 ; -1.56,4.91 1.561,4.91
F.CrtYd:
  lines w0.05: -3.8,-5.2 3.8,-5.2 3.8,5.2 -3.8,5.2 -3.8,-5.2
F.Fab:
  lines w0.1: -1,-3.65 -0.333,-3.65 ; -1,-3.55 -0.333,-3.55 ; -1,-3.45 -0.333,-3.45 ; -1,-3.35 -0.333,-3.35 ; -1,-2.65 -0.333,-2.65 ; -1,-2.55 -0.333,-2.55 ; -1,-2.45 -0.333,-2.45 ; -1,-2.35 -0.333,-2.35 ; -1,-1.65 -0.333,-1.65 ; -1,-1.55 -0.333,-1.55 ; -1,-1.45 -0.333,-1.45 ; -1,-1.35 -0.333,-1.35 ; -1,-0.65 -0.333,-0.65 ; -1,-0.55 -0.333,-0.55 ; -1,-0.45 -0.333,-0.45 ; -1,-0.35 -0.333,-0.35 ; -1,0.35 -0.333,0.35 ; -1,0.45 -0.333,0.45 ; -1,0.55 -0.333,0.55 ; -1,0.65 -0.333,0.65 ; -1,1.35 -0.333,1.35 ; -1,1.45 -0.333,1.45 ; -1,1.55 -0.333,1.55 ; -1,1.65 -0.333,1.65 ; -1,2.35 -0.333,2.35 ; -1,2.45 -0.333,2.45 ; -1,2.55 -0.333,2.55 ; -1,2.65 -0.333,2.65 ; -1,3.35 -0.333,3.35 ; -1,3.45 -0.333,3.45 ; -1,3.55 -0.333,3.55 ; -1,3.65 -0.333,3.65 ; -0.333,-3.25 -0.333,-3.75 -1,-3.75 ; -0.333,-2.25 -0.333,-2.75 -1,-2.75 ; -0.333,-1.25 -0.333,-1.75 -1,-1.75 ; -0.333,-0.25 -0.333,-0.75 -1,-0.75 ; -0.333,0.25 -0.333,0.75 ; -0.333,1.25 -0.333,1.75 ; -0.333,2.25 -0.333,2.75 ; -0.333,3.25 -0.333,3.75 ; -1,-3.75 -1,-3.25 1,-3.25 1,-3.75 -1,-3.75 ; -1,-2.75 1,-2.75 1,-2.25 -1,-2.25 -1,-2.75 ; -1,-1.75 -1,-1.25 1,-1.25 1,-1.75 -1,-1.75 ; -1,-0.75 -1,-0.25 1,-0.25 1,-0.75 -1,-0.75 ; -2.35,-4.5 -2.35,3.5 -1.35,4.5 2.35,4.5 2.35,-4.5 -2.35,-4.5 ; -1,0.25 -1,0.75 1,0.75 1,0.25 -1,0.25 ; -1,1.25 -1,1.75 1,1.75 1,1.25 -1,1.25 ; -1,2.25 1,2.25 1,2.75 -1,2.75 -1,2.25 ; -1,3.25 1,3.25 1,3.75 -1,3.75 -1,3.25
  text "on" at -0.465,3.738 h0.8
  text "'.Designator'" at 2.347,-3.237 h0.8

## SW_DIP_SPSTx08_Slide_KingTek_DSHP08TJ_W5.25mm_P1.27mm_JPin [mm]
pads (16):
  rect 2.65x0.76 smd: 1(-2.625,4.445) 2(-2.625,3.175) 3(-2.625,1.905) 4(-2.625,0.635) 5(-2.625,-0.635) 6(-2.625,-1.905) 7(-2.625,-3.175) 8(-2.625,-4.445) 9(2.625,-4.445) 10(2.625,-3.175) 11(2.625,-1.905) 12(2.625,-0.635) 13(2.625,0.635) 14(2.625,1.905) 15(2.625,3.175) 16(2.625,4.445)
F.SilkS:
  lines w0.12: -3.951,5.125 -2.761,5.125 -2.761,6.04 2.76,6.04 2.76,5.065 ; -2.761,-5.065 -2.761,-6.04 2.76,-6.04 2.76,-5.065
F.CrtYd:
  lines w0.05: -4.2,-6.3 -4.2,6.3 4.2,6.3 4.2,-6.3 -4.2,-6.3
F.Fab:
  lines w0.1: -1,-4.745 -0.333,-4.745 ; -1,-4.645 -0.333,-4.645 ; -1,-4.545 -0.333,-4.545 ; -1,-4.445 -0.333,-4.445 ; -1,-4.345 -0.333,-4.345 ; -1,-4.245 -0.333,-4.245 ; -1,-4.145 -0.333,-4.145 ; -1,-3.475 -0.333,-3.475 ; -1,-3.375 -0.333,-3.375 ; -1,-3.275 -0.333,-3.275 ; -1,-3.175 -0.333,-3.175 ; -1,-3.075 -0.333,-3.075 ; -1,-2.975 -0.333,-2.975 ; -1,-2.875 -0.333,-2.875 ; -1,-2.205 -0.333,-2.205 ; -1,-2.105 -0.333,-2.105 ; -1,-2.005 -0.333,-2.005 ; -1,-1.905 -0.333,-1.905 ; -1,-1.805 -0.333,-1.805 ; -1,-1.705 -0.333,-1.705 ; -1,-1.605 -0.333,-1.605 ; -1,-0.935 -0.333,-0.935 ; -1,-0.835 -0.333,-0.835 ; -1,-0.735 -0.333,-0.735 ; -1,-0.635 -0.333,-0.635 ; -1,-0.535 -0.333,-0.535 ; -1,-0.435 -0.333,-0.435 ; -1,-0.335 -0.333,-0.335 ; -1,0.335 -0.333,0.335 ; -1,0.435 -0.333,0.435 ; -1,0.535 -0.333,0.535 ; -1,0.635 -0.333,0.635 ; -1,0.735 -0.333,0.735 ; -1,0.835 -0.333,0.835 ; -1,0.935 -0.333,0.935 ; -1,1.605 -0.333,1.605 ; -1,1.705 -0.333,1.705 ; -1,1.805 -0.333,1.805 ; -1,1.905 -0.333,1.905 ; -1,2.005 -0.333,2.005 ; -1,2.105 -0.333,2.105 ; -1,2.205 -0.333,2.205 ; -1,2.875 -0.333,2.875 ; -1,2.975 -0.333,2.975 ; -1,3.075 -0.333,3.075 ; -1,3.175 -0.333,3.175 ; -1,3.275 -0.333,3.275 ; -1,3.375 -0.333,3.375 ; -1,3.475 -0.333,3.475 ; -1,4.145 -0.333,4.145 ; -1,4.245 -0.333,4.245 ; -1,4.345 -0.333,4.345 ; -1,4.445 -0.333,4.445 ; -1,4.545 -0.333,4.545 ; -1,4.645 -0.333,4.645 ; -1,4.745 -0.333,4.745 ; -0.333,-4.045 -0.333,-4.845 -1,-4.845 ; -0.333,-2.775 -0.333,-3.575 -1,-3.575 ; -0.333,-1.505 -0.333,-2.305 -1,-2.305 ; -0.333,-0.235 -0.333,-1.035 -1,-1.035 ; -0.333,0.235 -0.333,1.035 ; -0.333,1.505 -0.333,2.305 ; -0.333,2.775 -0.333,3.575 ; -0.333,4.045 -0.333,4.845 ; -1,-4.845 1,-4.845 1,-4.045 -1,-4.045 -1,-4.845 ; -1,-3.575 -1,-2.775 1,-2.775 1,-3.575 -1,-3.575 ; -1,-2.305 1,-2.305 1,-1.505 -1,-1.505 -1,-2.305 ; -1,-1.035 -1,-0.235 1,-0.235 1,-1.035 -1,-1.035 ; -2.7,-5.98 -2.7,4.98 -1.7,5.98 2.7,5.98 2.7,-5.98 -2.7,-5.98 ; -1,0.235 -1,1.035 1,1.035 1,0.235 -1,0.235 ; -1,1.505 1,1.505 1,2.305 -1,2.305 -1,1.505 ; -1,2.775 1,2.775 1,3.575 -1,3.575 -1,2.775 ; -1,4.045 1,4.045 1,4.845 -1,4.845 -1,4.045
  text "'.Designator'" at 2.522,-3.237 h0.8
  text "on" at -0.127,5.026 h0.8

## SW_DIP_SPSTx08_Slide_KingTek_DSHP08TS_W7.62mm_P1.27mm [mm]
pads (16):
  rect 1.27x0.76 smd: 1(-3.81,4.445) 2(-3.81,3.175) 3(-3.81,1.905) 4(-3.81,0.635) 5(-3.81,-0.635) 6(-3.81,-1.905) 7(-3.81,-3.175) 8(-3.81,-4.445) 9(3.81,-4.445) 10(3.81,-3.175) 11(3.81,-1.905) 12(3.81,-0.635) 13(3.81,0.635) 14(3.81,1.905) 15(3.81,3.175) 16(3.81,4.445)
F.SilkS:
  lines w0.12: -4.446,5.125 -2.76,5.125 -2.76,5.941 2.76,5.941 2.76,4.506 ; -2.76,-4.505 -2.76,-5.94 2.76,-5.94 2.76,-4.505
F.CrtYd:
  lines w0.05: -4.7,-6.2 4.7,-6.2 4.7,6.2 -4.7,6.2 -4.7,-6.2
F.Fab:
  lines w0.1: -1,-4.745 -0.333,-4.745 ; -1,-4.645 -0.333,-4.645 ; -1,-4.545 -0.333,-4.545 ; -1,-4.445 -0.333,-4.445 ; -1,-4.345 -0.333,-4.345 ; -1,-4.245 -0.333,-4.245 ; -1,-4.145 -0.333,-4.145 ; -1,-3.475 -0.333,-3.475 ; -1,-3.375 -0.333,-3.375 ; -1,-3.275 -0.333,-3.275 ; -1,-3.175 -0.333,-3.175 ; -1,-3.075 -0.333,-3.075 ; -1,-2.975 -0.333,-2.975 ; -1,-2.875 -0.333,-2.875 ; -1,-2.205 -0.333,-2.205 ; -1,-2.105 -0.333,-2.105 ; -1,-2.005 -0.333,-2.005 ; -1,-1.905 -0.333,-1.905 ; -1,-1.805 -0.333,-1.805 ; -1,-1.705 -0.333,-1.705 ; -1,-1.605 -0.333,-1.605 ; -1,-0.935 -0.333,-0.935 ; -1,-0.835 -0.333,-0.835 ; -1,-0.735 -0.333,-0.735 ; -1,-0.635 -0.333,-0.635 ; -1,-0.535 -0.333,-0.535 ; -1,-0.435 -0.333,-0.435 ; -1,-0.335 -0.333,-0.335 ; -1,0.335 -0.333,0.335 ; -1,0.435 -0.333,0.435 ; -1,0.535 -0.333,0.535 ; -1,0.635 -0.333,0.635 ; -1,0.735 -0.333,0.735 ; -1,0.835 -0.333,0.835 ; -1,0.935 -0.333,0.935 ; -1,1.605 -0.333,1.605 ; -1,1.705 -0.333,1.705 ; -1,1.805 -0.333,1.805 ; -1,1.905 -0.333,1.905 ; -1,2.005 -0.333,2.005 ; -1,2.105 -0.333,2.105 ; -1,2.205 -0.333,2.205 ; -1,2.875 -0.333,2.875 ; -1,2.975 -0.333,2.975 ; -1,3.075 -0.333,3.075 ; -1,3.175 -0.333,3.175 ; -1,3.275 -0.333,3.275 ; -1,3.375 -0.333,3.375 ; -1,3.475 -0.333,3.475 ; -1,4.145 -0.333,4.145 ; -1,4.245 -0.333,4.245 ; -1,4.345 -0.333,4.345 ; -1,4.445 -0.333,4.445 ; -1,4.545 -0.333,4.545 ; -1,4.645 -0.333,4.645 ; -1,4.745 -0.333,4.745 ; -0.333,-4.045 -0.333,-4.845 -1,-4.845 ; -0.333,-2.775 -0.333,-3.575 -1,-3.575 ; -0.333,-1.505 -0.333,-2.305 -1,-2.305 ; -0.333,-0.235 -0.333,-1.035 -1,-1.035 ; -0.333,0.235 -0.333,1.035 ; -0.333,1.505 -0.333,2.305 ; -0.333,2.775 -0.333,3.575 ; -0.333,4.045 -0.333,4.845 ; -1,-4.845 -1,-4.045 1,-4.045 1,-4.845 -1,-4.845 ; -1,-3.575 -1,-2.775 1,-2.775 1,-3.575 -1,-3.575 ; -1,-2.305 1,-2.305 1,-1.505 -1,-1.505 -1,-2.305 ; -1,-1.035 1,-1.035 1,-0.235 -1,-0.235 -1,-1.035 ; -2.7,-5.88 -2.7,4.88 -1.7,5.88 2.7,5.88 2.7,-5.88 -2.7,-5.88 ; -1,0.235 -1,1.035 1,1.035 1,0.235 -1,0.235 ; -1,1.505 -1,2.305 1,2.305 1,1.505 -1,1.505 ; -1,2.775 -1,3.575 1,3.575 1,2.775 -1,2.775 ; -1,4.045 1,4.045 1,4.845 -1,4.845 -1,4.045
  text "on" at -0.72,4.976 h0.8
  text "'.Designator'" at 2.522,-3.237 h0.8

## SW_DIP_SPSTx08_Slide_Omron_A6H-8101_W6.15mm_P1.27mm [mm]
pads (16):
  rect 1.25x0.76 smd: 1(-3.075,4.445) 2(-3.075,3.175) 3(-3.075,1.905) 4(-3.075,0.635) 5(-3.075,-0.635) 6(-3.075,-1.905) 7(-3.075,-3.175) 8(-3.075,-4.445) 9(3.075,-4.445) 10(3.075,-3.175) 11(3.075,-1.905) 12(3.075,-0.635) 13(3.075,0.635) 14(3.075,1.905) 15(3.075,3.175) 16(3.075,4.445)
F.SilkS:
  lines w0.12: -3.7,5.125 -2.309,5.125 -2.309,5.775 2.31,5.775 2.31,5.065 ; -2.309,-5.065 -2.309,-5.775 2.31,-5.775 2.31,-5.065
F.CrtYd:
  lines w0.05: -3.95,-6.05 3.95,-6.05 3.95,6.05 -3.95,6.05 -3.95,-6.05
F.Fab:
  lines w0.1: -1.6,-4.595 -0.533,-4.595 ; -1.6,-4.495 -0.533,-4.495 ; -1.6,-4.395 -0.533,-4.395 ; -1.6,-4.295 -0.533,-4.295 ; -1.6,-3.325 -0.533,-3.325 ; -1.6,-3.225 -0.533,-3.225 ; -1.6,-3.125 -0.533,-3.125 ; -1.6,-3.025 -0.533,-3.025 ; -1.6,-2.055 -0.533,-2.055 ; -1.6,-1.955 -0.533,-1.955 ; -1.6,-1.855 -0.533,-1.855 ; -1.6,-1.755 -0.533,-1.755 ; -1.6,-0.785 -0.533,-0.785 ; -1.6,-0.685 -0.533,-0.685 ; -1.6,-0.585 -0.533,-0.585 ; -1.6,-0.485 -0.533,-0.485 ; -1.6,0.485 -0.533,0.485 ; -1.6,0.585 -0.533,0.585 ; -1.6,0.685 -0.533,0.685 ; -1.6,0.785 -0.533,0.785 ; -1.6,1.755 -0.533,1.755 ; -1.6,1.855 -0.533,1.855 ; -1.6,1.955 -0.533,1.955 ; -1.6,2.055 -0.533,2.055 ; -1.6,3.025 -0.533,3.025 ; -1.6,3.125 -0.533,3.125 ; -1.6,3.225 -0.533,3.225 ; -1.6,3.325 -0.533,3.325 ; -1.6,4.295 -0.533,4.295 ; -1.6,4.395 -0.533,4.395 ; -1.6,4.495 -0.533,4.495 ; -1.6,4.595 -0.533,4.595 ; -0.533,-4.195 -0.533,-4.695 -1.6,-4.695 ; -0.533,-2.925 -0.533,-3.425 -1.6,-3.425 ; -0.533,-1.655 -0.533,-2.155 -1.6,-2.155 ; -0.533,-0.385 -0.533,-0.885 -1.6,-0.885 ; -0.533,0.385 -0.533,0.885 ; -0.533,1.655 -0.533,2.155 ; -0.533,2.925 -0.533,3.425 ; -0.533,4.195 -0.533,4.695 ; -1.6,-4.695 1.6,-4.695 1.6,-4.195 -1.6,-4.195 -1.6,-4.695 ; -1.6,-3.425 1.6,-3.425 1.6,-2.925 -1.6,-2.925 -1.6,-3.425 ; -1.6,-2.155 1.6,-2.155 1.6,-1.655 -1.6,-1.655 -1.6,-2.155 ; -1.6,-0.885 1.6,-0.885 1.6,-0.385 -1.6,-0.385 -1.6,-0.885 ; -2.25,-5.715 2.25,-5.715 2.25,5.715 -1.25,5.715 -2.25,4.715 -2.25,-5.715 ; -1.6,0.385 1.6,0.385 1.6,0.885 -1.6,0.885 -1.6,0.385 ; -1.6,1.655 -1.6,2.155 1.6,2.155 1.6,1.655 -1.6,1.655 ; -1.6,2.925 1.6,2.925 1.6,3.425 -1.6,3.425 -1.6,2.925 ; -1.6,4.195 -1.6,4.695 1.6,4.695 1.6,4.195 -1.6,4.195
  text "'.Designator'" at 2.307,-1.841 h0.46
  text "on" at 0.009,4.985 h0.46

## SW_DIP_SPSTx08_Slide_Omron_A6S-810x_W8.9mm_P2.54mm [mm]
pads (16):
  rect 1.5x1.1 smd: 1(-4.45,8.89) 2(-4.45,6.35) 3(-4.45,3.81) 4(-4.45,1.27) 5(-4.45,-1.27) 6(-4.45,-3.81) 7(-4.45,-6.35) 8(-4.45,-8.89) 9(4.45,-8.89) 10(4.45,-6.35) 11(4.45,-3.81) 12(4.45,-1.27) 13(4.45,1.27) 14(4.45,3.81) 15(4.45,6.35) 16(4.45,8.89)
F.SilkS:
  lines w0.12: -5.2,9.741 -3.16,9.741 -3.16,10.69 3.16,10.69 3.16,8.951 ; -3.16,-8.95 -3.16,-10.69 3.16,-10.69 3.16,-8.95
F.CrtYd:
  lines w0.05: -5.45,-10.95 -5.45,10.95 5.45,10.95 5.45,-10.95 -5.45,-10.95
F.Fab:
  lines w0.1: -1.5,-9.34 -0.5,-9.34 ; -1.5,-9.24 -0.5,-9.24 ; -1.5,-9.14 -0.5,-9.14 ; -1.5,-9.04 -0.5,-9.04 ; -1.5,-8.94 -0.5,-8.94 ; -1.5,-8.84 -0.5,-8.84 ; -1.5,-8.74 -0.5,-8.74 ; -1.5,-8.64 -0.5,-8.64 ; -1.5,-8.54 -0.5,-8.54 ; -1.5,-8.44 -0.5,-8.44 ; -1.5,-6.8 -0.5,-6.8 ; -1.5,-6.7 -0.5,-6.7 ; -1.5,-6.6 -0.5,-6.6 ; -1.5,-6.5 -0.5,-6.5 ; -1.5,-6.4 -0.5,-6.4 ; -1.5,-6.3 -0.5,-6.3 ; -1.5,-6.2 -0.5,-6.2 ; -1.5,-6.1 -0.5,-6.1 ; -1.5,-6 -0.5,-6 ; -1.5,-5.9 -0.5,-5.9 ; -1.5,-4.26 -0.5,-4.26 ; -1.5,-4.16 -0.5,-4.16 ; -1.5,-4.06 -0.5,-4.06 ; -1.5,-3.96 -0.5,-3.96 ; -1.5,-3.86 -0.5,-3.86 ; -1.5,-3.76 -0.5,-3.76 ; -1.5,-3.66 -0.5,-3.66 ; -1.5,-3.56 -0.5,-3.56 ; -1.5,-3.46 -0.5,-3.46 ; -1.5,-3.36 -0.5,-3.36 ; -1.5,-1.72 -0.5,-1.72 ; -1.5,-1.62 -0.5,-1.62 ; -1.5,-1.52 -0.5,-1.52 ; -1.5,-1.42 -0.5,-1.42 ; -1.5,-1.32 -0.5,-1.32 ; -1.5,-1.22 -0.5,-1.22 ; -1.5,-1.12 -0.5,-1.12 ; -1.5,-1.02 -0.5,-1.02 ; -1.5,-0.92 -0.5,-0.92 ; -1.5,-0.82 -0.5,-0.82 ; -1.5,0.82 -0.5,0.82 ; -1.5,0.92 -0.5,0.92 ; -1.5,1.02 -0.5,1.02 ; -1.5,1.12 -0.5,1.12 ; -1.5,1.22 -0.5,1.22 ; -1.5,1.32 -0.5,1.32 ; -1.5,1.42 -0.5,1.42 ; -1.5,1.52 -0.5,1.52 ; -1.5,1.62 -0.5,1.62 ; -1.5,1.72 -0.5,1.72 ; -1.5,3.36 -0.5,3.36 ; -1.5,3.46 -0.5,3.46 ; -1.5,3.56 -0.5,3.56 ; -1.5,3.66 -0.5,3.66 ; -1.5,3.76 -0.5,3.76 ; -1.5,3.86 -0.5,3.86 ; -1.5,3.96 -0.5,3.96 ; -1.5,4.06 -0.5,4.06 ; -1.5,4.16 -0.5,4.16 ; -1.5,4.26 -0.5,4.26 ; -1.5,5.9 -0.5,5.9 ; -1.5,6 -0.5,6 ; -1.5,6.1 -0.5,6.1 ; -1.5,6.2 -0.5,6.2 ; -1.5,6.3 -0.5,6.3 ; -1.5,6.4 -0.5,6.4 ; -1.5,6.5 -0.5,6.5 ; -1.5,6.6 -0.5,6.6 ; -1.5,6.7 -0.5,6.7 ; -1.5,6.8 -0.5,6.8 ; -1.5,8.44 -0.5,8.44 ; -1.5,8.54 -0.5,8.54 ; -1.5,8.64 -0.5,8.64 ; -1.5,8.74 -0.5,8.74 ; -1.5,8.84 -0.5,8.84 ; -1.5,8.94 -0.5,8.94 ; -1.5,9.04 -0.5,9.04 ; -1.5,9.14 -0.5,9.14 ; -1.5,9.24 -0.5,9.24 ; -1.5,9.34 -0.5,9.34 ; -0.5,-9.44 -0.5,-8.34 ; -0.5,-5.8 -0.5,-6.9 -1.5,-6.9 ; -0.5,-3.26 -0.5,-4.36 -1.5,-4.36 ; -0.5,-0.72 -0.5,-1.82 -1.5,-1.82 ; -0.5,1.82 -0.5,0.72 -1.5,0.72 ; -0.5,4.36 -0.5,3.26 -1.5,3.26 ; -0.5,5.8 -0.5,6.9 ; -0.5,9.44 -0.5,8.34 -1.5,8.34 ; -1.5,-6.9 1.5,-6.9 1.5,-5.8 -1.5,-5.8 -1.5,-6.9 ; -1.5,-4.36 -1.5,-3.26 1.5,-3.26 1.5,-4.36 -1.5,-4.36 ; -1.5,-1.82 1.5,-1.82 1.5,-0.72 -1.5,-0.72 -1.5,-1.82 ; -1.5,0.72 -1.5,1.82 1.5,1.82 1.5,0.72 -1.5,0.72 ; -1.5,3.26 1.5,3.26 1.5,4.36 -1.5,4.36 -1.5,3.26 ; -1.5,8.34 1.5,8.34 1.5,9.44 -1.5,9.44 -1.5,8.34 ; -3.1,-10.63 -3.1,9.63 -2.1,10.63 3.1,10.63 3.1,-10.63 -3.1,-10.63 ; -1.5,-9.44 -1.5,-8.34 1.5,-8.34 1.5,-9.44 -1.5,-9.44 ; -1.5,5.8 -1.5,6.9 1.5,6.9 1.5,5.8 -1.5,5.8
  text "on" at -0.59,9.648 h0.8
  text "'.Designator'" at 2.972,-3.237 h0.8

## SW_DIP_SPSTx09_Slide_6.7x24.42mm_W6.73mm_P2.54mm_LowProfile_JPin [mm]
pads (18):
  rect 2.16x1.12 smd: 1(-3.365,10.16) 2(-3.365,7.62) 3(-3.365,5.08) 4(-3.365,2.54) 5(-3.365,0) 6(-3.365,-2.54) 7(-3.365,-5.08) 8(-3.365,-7.62) 9(-3.365,-10.16) 10(3.365,-10.16) 11(3.365,-7.62) 12(3.365,-5.08) 13(3.365,-2.54) 14(3.365,0) 15(3.365,2.54) 16(3.365,5.08) 17(3.365,7.62) 18(3.365,10.16)
F.SilkS:
  drawing of 159 lines, arcs and shapes, not listed
F.CrtYd:
  lines w0.05: -4.7,-12.55 -4.7,12.55 4.7,12.55 4.7,-12.55 -4.7,-12.55
F.Fab:
  drawing of 158 lines, arcs and shapes, not listed
  text "on" at 0.233,11.116 h0.8
  text "'.Designator'" at 3.252,-3.237 h0.8

## SW_DIP_SPSTx09_Slide_6.7x24.42mm_W8.61mm_P2.54mm_LowProfile [mm]
pads (18):
  rect 2.44x1.12 smd: 1(-4.305,10.16) 2(-4.305,7.62) 3(-4.305,5.08) 4(-4.305,2.54) 5(-4.305,0) 6(-4.305,-2.54) 7(-4.305,-5.08) 8(-4.305,-7.62) 9(-4.305,-10.16) 10(4.305,-10.16) 11(4.305,-7.62) 12(4.305,-5.08) 13(4.305,-2.54) 14(4.305,0) 15(4.305,2.54) 16(4.305,5.08) 17(4.305,7.62) 18(4.305,10.16)
F.SilkS:
  drawing of 159 lines, arcs and shapes, not listed
F.CrtYd:
  lines w0.05: -5.8,-12.55 -5.8,12.55 5.8,12.55 5.8,-12.55 -5.8,-12.55
F.Fab:
  drawing of 158 lines, arcs and shapes, not listed
  text "on" at -0.237,11.116 h0.8
  text "'.Designator'" at 3.252,-3.237 h0.8

## SW_DIP_SPSTx09_Slide_9.78x25.04mm_W8.61mm_P2.54mm [mm]
pads (18):
  rect 2.44x1.12 smd: 1(-4.305,10.16) 2(-4.305,7.62) 3(-4.305,5.08) 4(-4.305,2.54) 5(-4.305,0) 6(-4.305,-2.54) 7(-4.305,-5.08) 8(-4.305,-7.62) 9(-4.305,-10.16) 10(4.305,-10.16) 11(4.305,-7.62) 12(4.305,-5.08) 13(4.305,-2.54) 14(4.305,0) 15(4.305,2.54) 16(4.305,5.08) 17(4.305,7.62) 18(4.305,10.16)
F.SilkS:
  drawing of 159 lines, arcs and shapes, not listed
F.CrtYd:
  lines w0.05: -5.8,-12.85 5.8,-12.85 5.8,12.85 -5.8,12.85 -5.8,-12.85
F.Fab:
  drawing of 158 lines, arcs and shapes, not listed
  text "'.Designator'" at 4.132,-3.237 h0.8
  text "on" at 0.643,11.271 h0.8

## SW_DIP_SPSTx09_Slide_KingTek_DSHP09TJ_W5.25mm_P1.27mm_JPin [mm]
pads (18):
  rect 2.65x0.76 smd: 1(-2.625,5.08) 2(-2.625,3.81) 3(-2.625,2.54) 4(-2.625,1.27) 5(-2.625,0) 6(-2.625,-1.27) 7(-2.625,-2.54) 8(-2.625,-3.81) 9(-2.625,-5.08) 10(2.625,-5.08) 11(2.625,-3.81) 12(2.625,-2.54) 13(2.625,-1.27) 14(2.625,0) 15(2.625,1.27) 16(2.625,2.54) 17(2.625,3.81) 18(2.625,5.08)
F.SilkS:
  lines w0.12: -3.951,5.76 -2.761,5.76 -2.761,6.675 2.76,6.675 2.76,5.7 ; -2.761,-5.7 -2.761,-6.675 2.76,-6.675 2.76,-5.7
F.CrtYd:
  lines w0.05: -4.2,-6.95 -4.2,6.95 4.2,6.95 4.2,-6.95 -4.2,-6.95
F.Fab:
  lines w0.1: -1,-5.38 -0.333,-5.38 ; -1,-5.28 -0.333,-5.28 ; -1,-5.18 -0.333,-5.18 ; -1,-5.08 -0.333,-5.08 ; -1,-4.98 -0.333,-4.98 ; -1,-4.88 -0.333,-4.88 ; -1,-4.78 -0.333,-4.78 ; -1,-4.11 -0.333,-4.11 ; -1,-4.01 -0.333,-4.01 ; -1,-3.91 -0.333,-3.91 ; -1,-3.81 -0.333,-3.81 ; -1,-3.71 -0.333,-3.71 ; -1,-3.61 -0.333,-3.61 ; -1,-3.51 -0.333,-3.51 ; -1,-2.84 -0.333,-2.84 ; -1,-2.74 -0.333,-2.74 ; -1,-2.64 -0.333,-2.64 ; -1,-2.54 -0.333,-2.54 ; -1,-2.44 -0.333,-2.44 ; -1,-2.34 -0.333,-2.34 ; -1,-2.24 -0.333,-2.24 ; -1,-1.57 -0.333,-1.57 ; -1,-1.47 -0.333,-1.47 ; -1,-1.37 -0.333,-1.37 ; -1,-1.27 -0.333,-1.27 ; -1,-1.17 -0.333,-1.17 ; -1,-1.07 -0.333,-1.07 ; -1,-0.97 -0.333,-0.97 ; -1,-0.3 -0.333,-0.3 ; -1,-0.2 -0.333,-0.2 ; -1,-0.1 -0.333,-0.1 ; -1,0 -0.333,0 ; -1,0.1 -0.333,0.1 ; -1,0.2 -0.333,0.2 ; -1,0.3 -0.333,0.3 ; -1,0.97 -0.333,0.97 ; -1,1.07 -0.333,1.07 ; -1,1.17 -0.333,1.17 ; -1,1.27 -0.333,1.27 ; -1,1.37 -0.333,1.37 ; -1,1.47 -0.333,1.47 ; -1,1.57 -0.333,1.57 ; -1,2.24 -0.333,2.24 ; -1,2.34 -0.333,2.34 ; -1,2.44 -0.333,2.44 ; -1,2.54 -0.333,2.54 ; -1,2.64 -0.333,2.64 ; -1,2.74 -0.333,2.74 ; -1,2.84 -0.333,2.84 ; -1,3.51 -0.333,3.51 ; -1,3.61 -0.333,3.61 ; -1,3.71 -0.333,3.71 ; -1,3.81 -0.333,3.81 ; -1,3.91 -0.333,3.91 ; -1,4.01 -0.333,4.01 ; -1,4.11 -0.333,4.11 ; -1,4.78 -0.333,4.78 ; -1,4.88 -0.333,4.88 ; -1,4.98 -0.333,4.98 ; -1,5.08 -0.333,5.08 ; -1,5.18 -0.333,5.18 ; -1,5.28 -0.333,5.28 ; -1,5.38 -0.333,5.38 ; -0.333,-4.68 -0.333,-5.48 -1,-5.48 ; -0.333,-3.41 -0.333,-4.21 -1,-4.21 ; -0.333,-2.14 -0.333,-2.94 -1,-2.94 ; -0.333,-0.87 -0.333,-1.67 -1,-1.67 ; -0.333,0.4 -0.333,-0.4 -1,-0.4 ; -0.333,0.87 -0.333,1.67 ; -0.333,2.14 -0.333,2.94 ; -0.333,3.41 -0.333,4.21 ; -0.333,4.68 -0.333,5.48 ; -1,-5.48 1,-5.48 1,-4.68 -1,-4.68 -1,-5.48 ; -1,-4.21 -1,-3.41 1,-3.41 1,-4.21 -1,-4.21 ; -1,-2.94 1,-2.94 1,-2.14 -1,-2.14 -1,-2.94 ; -1,-1.67 -1,-0.87 1,-0.87 1,-1.67 -1,-1.67 ; -1,-0.4 1,-0.4 1,0.4 -1,0.4 -1,-0.4 ; -2.7,-6.615 -2.7,5.615 -1.7,6.615 2.7,6.615 2.7,-6.615 -2.7,-6.615 ; -1,0.87 -1,1.67 1,1.67 1,0.87 -1,0.87 ; -1,2.14 -1,2.94 1,2.94 1,2.14 -1,2.14 ; -1,3.41 1,3.41 1,4.21 -1,4.21 -1,3.41 ; -1,4.68 -1,5.48 1,5.48 1,4.68 -1,4.68
  text "on" at -0.127,5.661 h0.8
  text "'.Designator'" at 2.522,-3.237 h0.8